# Altium schematic symbol library Switchmode Converters.SchLib: 8 symbols
Pins are listed as number, name and electrical type; pins without a type are passive.

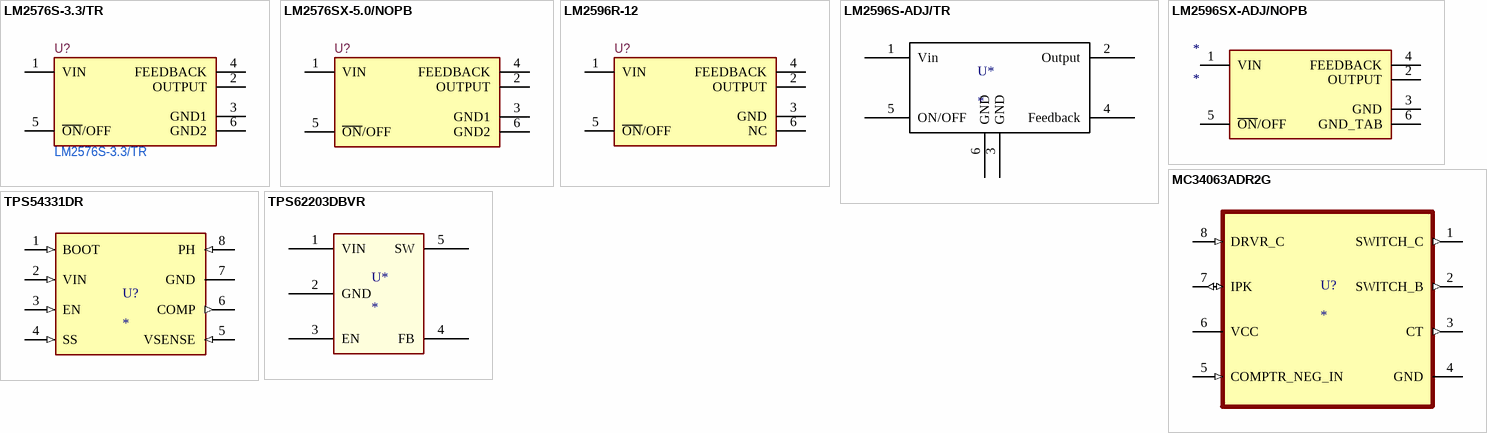
[diagram p0: symbols LM2576S-3.3/TR to TPS62203DBVR]

## LM2576S-3.3/TR
designator U?
Conv DC-DC Single Step Down 4V to 40V 6-Pin(5+Tab) TO-263 T/R; Manufacturer 1: Microchip; Manufacturer Part Number 1: LM2576-3.3WUTR; Supplier 1: Future Electronics; RoHS: Yes; Category: Uncategorized; ComponentLink1URL: https://datasheet.ciiva.com/2034/lm2576-2034887.pdf?src-supplier=Digi-Key; ComponentLink1Description: https://datasheet.ciiva.com/2034/lm2576-2034887.pdf?src-supplier=Digi-Key; ComponentLink2URL: https://datasheet.ciiva.com/16374/lm2576-16374282.pdf?src-supplier=Future+Electronics; ComponentLink2Description: https://datasheet.ciiva.com/16374/lm2576-16374282.pdf?src-supplier=Future+Electronics; Supplier Part Number 1: LM2576-3.3WU TR; LCSC: C194473; ComponentLink3Description: LCSC - HGSEMI LM2576S-3.3/TR; ComponentLink3URL: https://lcsc.com/product-detail/Others_HGSEMI-LM2576S-3-3-TR_C194473.html
footprint TO-263-5
pins: 1 VIN, 2 OUTPUT, 3 GND1, 4 FEEDBACK, 5 ~{ON}/OFF, 6 GND2

## LM2576SX-5.0/NOPB
designator U?
Step-Down Positive Adjustable (Fixed) 1 3A 52kHz TO-263-5 DC-DC Converters RoHS; LCSC Part #: C34465; JLCPCB Part Type: Basic; ComponentLink1Description: LCSC - Texas Instruments LM2576SX-5.0/NOPB; ComponentLink1URL: https://lcsc.com/product-detail/DC-DC-Converters_TI_LM2576SX-5-0_LM2576SX-5-0_C34465.html/?href=jlc-SMT
footprint TO-263-5
pins: 1 VIN, 2 OUTPUT, 3 GND1, 4 FEEDBACK, 5 ~{ON}/OFF, 6 GND2

## LM2596R-12
designator U?
DC-DC CONVERTERS STEP-DOWN ADJUSTABLE (FIXED) 1 40V 1.2V 37V 3A TO-263-5 ROHS; LCSC Part #: C90691; JLCPCB Part Type: Extended; ComponentLink1Description: LCSC - HTC Korea TAEJIN Tech LM2596R-12; ComponentLink1URL: https://lcsc.com/product-detail/DC-DC-Converters_HTC_LM2596R-12_LM2596R-12_C90691.html/?href=jlc-SMT
footprint TO-263-5
pins: 1 VIN, 2 OUTPUT, 3 GND, 4 FEEDBACK, 5 ~{ON}/OFF, 6 NC

## LM2596S-ADJ/TR
designator U*
ComponentLink1Description: LCSC - HGSEMI LM2596S-ADJ/TR; ComponentLink1URL: https://lcsc.com/product-detail/Others_HGSEMI-LM2596S-ADJ-TR_C194351.html
footprint TO-263-5
pins: 1 Vin, 2 Output, 3 GND, 4 Feedback, 5 ON/OFF, 6 GND

## LM2596SX-ADJ/NOPB
designator *
DC-DC CONVERTERS STEP-DOWN ADJUSTABLE 1 4.5V 40V 1.2V 37V 3A TO-263-5 ROHS; ComponentLink1Description: LCSC - Texas Instruments LM2596SX-ADJ/NOPB; ComponentLink1URL: https://lcsc.com/product-detail/DC-DC-Converters_TI_LM2596SX-ADJ-NOPB_LM2596SX-ADJ-NOPB_C29781.html/?href=jlc-SMT; LCSC Part #: C29781; JLCPCB Part Type: Extended
footprint TO-263-5
pins: 1 VIN, 2 OUTPUT, 3 GND, 4 FEEDBACK, 5 ~{ON}/OFF, 6 GND_TAB

## MC34063ADR2G
designator U?
40V 1.5A (Switch) SOIC-8_150mil DC-DC Converters RoHS; MP: MC34063ADR2G; MF: {'manufacturer': u'ON Semiconductor'}; ComponentLink1Description: LCSC - ON Semiconductor MC34063ADR2G; ComponentLink1URL: https://lcsc.com/product-detail/DC-DC-Converters_ON-Semicon_MC34063ADR2G_ON-Semicon-ON-MC34063ADR2G_C32078.html/?href=jlc-SMT; LCSC Part #: C32078; JLCPCB Part Type: Basic
footprint SOIC127P600X175-8N
pins: 1 SWITCH_C (out), 2 SWITCH_B (out), 3 CT (out), 4 GND (power), 5 COMPTR_NEG_IN (in), 6 VCC (power), 7 IPK (io), 8 DRVR_C (in)

## TPS54331DR
designator U?
28V 3A SOIC-8_150mil DC-DC Converters RoHS; ComponentLink1Description: LCSC - Texas Instruments TPS54331DR; ComponentLink1URL: https://lcsc.com/product-detail/DC-DC-Converters_TI_TPS54331DR_TPS54331DR_C9865.html/?href=jlc-SMT; LCSC Part #: C9865; JLCPCB Part Type: Basic
footprint SOIC127P600X175-8N
pins: 1 BOOT (in), 2 VIN (in), 3 EN (in), 4 SS (in), 5 VSENSE (in), 6 COMP (out), 7 GND (power), 8 PH (in)

## TPS62203DBVR
designator U*
300mA 6 Vin - 3.3 Vout SOT-23-5 DC-DC Converters ROHS; ComponentLink1Description: LCSC - Texas Instruments TPS62203DBVR; ComponentLink1URL: https://lcsc.com/product-detail/DC-DC-Converters_Texas-Instruments-TPS62203DBVR_C9051.html; JLCPCB Part Type: Extended; LCSC Part #: C9051
footprint SOT95P270X145-5N (SOT, 0.95mm Pitch; 5 Pin,1.55mm W X 2.90mm L X 1.45mm H body, IPC Medium Density)
pins: 1 VIN, 2 GND, 3 EN, 4 FB, 5 SW